# Altium schematic symbol library SCH - CONNECTORS - SAMTEC - TSW-103-05-G-D.SCHLIB: 1 symbol
Pins are listed as number, name and electrical type; pins without a type are passive.

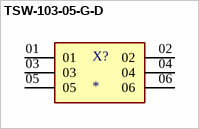
[diagram p0: symbol TSW-103-05-G-D]

## TSW-103-05-G-D
designator X?
MF: Samtec; MP: TSW-103-05-G-D; Availability: Unavailable; Value: *; Price: None; Package: None
footprint SAMTEC_TSW-103-05-G-D
pins: 01, 02, 03, 04, 05, 06